# Altium footprint library SM07B-SRSS-TBLFSN.PcbLib: 1 footprints
Each footprint in its own frame and in the unit in brackets; x right, y up, seen from the top. Pads: shape width x height; smd on the part's side, far side on the other; paste and mask are expansions set on the pad; w line width, h text height; cw(c..) or ccw(c..) is an arc to the next point about the centre after c.
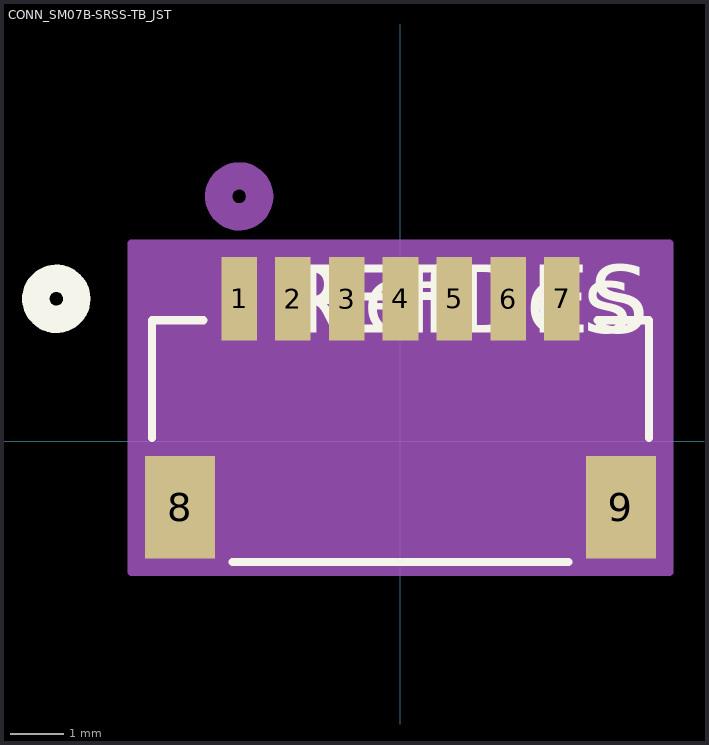
[diagram p0: the footprint, top view; thin cyan lines are the x and y axes]

## CONN_SM07B-SRSS-TB_JST [mil]
pads (9):
  rect 26x61 smd paste+0 mask+0: 1(-118.11,104.17) 2(-78.74,104.17) 3(-39.37,104.17) 4(0,104.17) 5(39.37,104.17) 6(78.74,104.17) 7(118.11,104.17)
  rect 51x75 smd paste-37.5 mask-37.5: 8(-161.42,-48.39) 9(161.42,-48.39)
Top Overlay:
  circle w20: c-252,104.17 r15
  lines w6: -182,2.21 -182,88.5 -144.21,88.5 ; -123.08,-88.5 123.08,-88.5 ; 144.21,88.5 182,88.5 182,2.21
  text "RefDes" at -75,79.17 h50
  text "REFDES" at -87.5,79.17 h50
Bottom Overlay:
  circle w20: c-252,104.17 r15
Mechanical 13:
  circle w20: c-118.11,179.17 r15
  lines w1: -177,-83.5 177,-83.5 177,83.5 -177,83.5 -177,-83.5
  text "RefDes2" at -87.5,79.17 h50
Mechanical 15:
  region: 196.92,144.67 -196.92,144.67 -196.92,-95.89 196.92,-95.89
  lines w6: -196.92,-95.89 -196.92,144.67 196.92,144.67 196.92,-95.89 -196.92,-95.89